# EAGLE library part 74HC00 (library 1_MICRO)
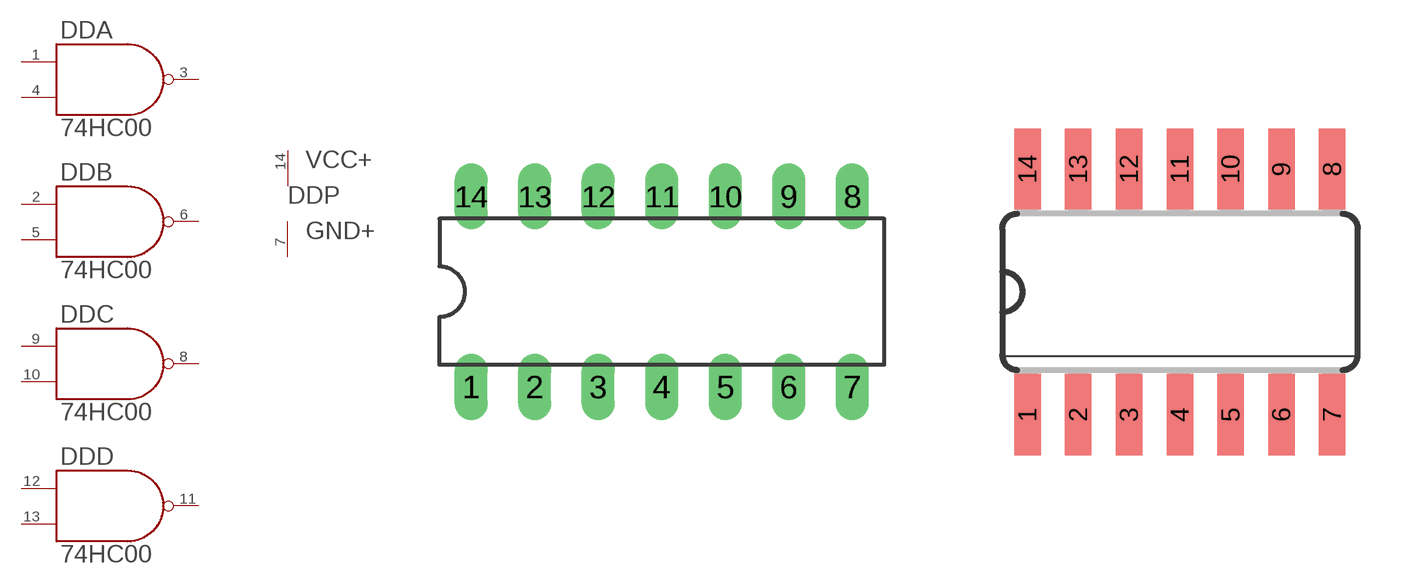
[diagram p0: symbol with the pads of DIL14; footprints DIL14, SO14]

Designator prefix DD; gates A=NAND B=NAND C=NAND D=NAND P=PWR-PIN

## 74HC00DIP14  [DIL14]
1  A:IN1  in
2  B:IN1  in
3  A:OUT  out
4  A:IN2  in
5  B:IN2  in
6  B:OUT  out
7  P:GND  pwr
8  C:OUT  out
9  C:IN1  in
10  C:IN2  in
11  D:OUT  out
12  D:IN1  in
13  D:IN2  in
14  P:VCC  pwr

## 74HC00  [SO14]
Pads as for DIL14

## Footprint DIL14 (pad centres in mm)
Dual In Line Package
drill 0.813 long: 1 -7.62,-3.81; 2 -5.08,-3.81; 3 -2.54,-3.81; 4 0,-3.81; 5 2.54,-3.81; 6 5.08,-3.81; 7 7.62,-3.81; 8 7.62,3.81; 9 5.08,3.81; 10 2.54,3.81; 11 0,3.81; 12 -2.54,3.81; 13 -5.08,3.81; 14 -7.62,3.81

## Footprint SO14 (pad centres in mm)
Small Outline package 150 mil
smd 0.66 x 2.032: 1 -3.81,-3.073; 2 -2.54,-3.073; 3 -1.27,-3.073; 4 0,-3.073; 5 1.27,-3.073; 6 2.54,-3.073; 7 3.81,-3.073; 8 3.81,3.073; 9 2.54,3.073; 10 1.27,3.073; 11 0,3.073; 12 -1.27,3.073; 13 -2.54,3.073; 14 -3.81,3.073